# Altium footprint library QUTMS_PCIConnectorLibrary.PcbLib: 2 footprints
Each footprint in its own frame and in the unit in brackets; x right, y up, seen from the top. Pads: shape width x height; smd on the part's side, far side on the other; paste and mask are expansions set on the pad; w line width, h text height; cw(c..) or ccw(c..) is an arc to the next point about the centre after c.
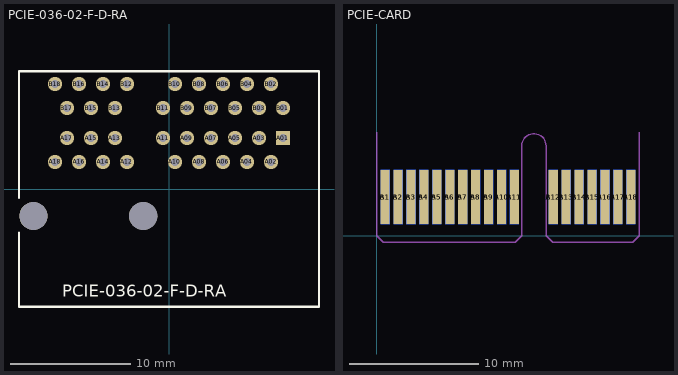
[diagram p0: the footprints below, top view; thin cyan lines are the x and y axes]

## PCIE-036-02-F-D-RA [mm]
pads (38):
  rect 1.208x1.208 hole 0.7: A01(9.5,4.25)
  round 1.208 hole 0.7: A02(8.5,2.25) A03(7.5,4.25) A04(6.5,2.25) A05(5.5,4.25) A06(4.5,2.25) A07(3.5,4.25) A08(2.5,2.25) A09(1.5,4.25) A10(0.5,2.25) A11(-0.5,4.25) A12(-3.5,2.25) A13(-4.5,4.25) A14(-5.5,2.25) A15(-6.5,4.25) A16(-7.5,2.25) A17(-8.5,4.25) A18(-9.5,2.25) B01(9.5,6.75) B02(8.5,8.75) B03(7.5,6.75) B04(6.5,8.75) B05(5.5,6.75) B06(4.5,8.75) B07(3.5,6.75) B08(2.5,8.75) B09(1.5,6.75) B10(0.5,8.75) B11(-0.5,6.75) B12(-3.5,8.75) B13(-4.5,6.75) B14(-5.5,8.75) B15(-6.5,6.75) B16(-7.5,8.75) B17(-8.5,6.75) B18(-9.5,8.75)
  round 2.35 hole 2.35 unplated: ""(-11.3,-2.25) ""(-2.15,-2.25)
Top Overlay:
  lines w0.2: -12.5,-3.65 -12.5,-9.8 12.5,-9.8 12.5,9.8 -12.5,9.8 -12.5,-0.75
  text "PCIE-036-02-F-D-RA" at -8.887,-8.992 h1.02
3D body "PCIE-036-02-F-D-RA.stp": height 9.49, standoff -4.36, extent -12.49,-9.779 12.51,9.071

## PCIE-CARD [mm]
pads (36):
  rect 0.7x4.2 smd far side paste-1: A1(0.65,3) A2(1.65,3) A3(2.65,3) A4(3.65,3) A5(4.65,3) A6(5.65,3) A7(6.65,3) A8(7.65,3) A9(8.65,3) A10(9.65,3) A11(10.65,3) A12(13.65,3) A13(14.65,3) A14(15.65,3) A15(16.65,3) A16(17.65,3) A17(18.65,3) A18(19.65,3)
  rect 0.7x4.2 smd paste-1: B1(0.65,3) B2(1.65,3) B3(2.65,3) B4(3.65,3) B5(4.65,3) B6(5.65,3) B7(6.65,3) B8(7.65,3) B9(8.65,3) B10(9.65,3) B11(10.65,3) B12(13.65,3) B13(14.65,3) B14(15.65,3) B15(16.65,3) B16(17.65,3) B17(18.65,3) B18(19.65,3)
Top Solder:
  rectangle: -0.25,-0.75 20.55,5.225
Bottom Solder:
  rectangle: -0.25,-0.75 20.55,5.225
Mechanical 1:
  lines w0.1: 0,8 0,0 0.5,-0.5 10.7,-0.5 11.2,0 11.2,6.95 cw(c12.15,6.95) 13.1,6.95 13.1,0 13.6,-0.5 19.8,-0.5 20.3,0 20.3,8